# Altium footprint library SUPERSEAL 26POS 4ROW.PcbLib: 1 footprints
Each footprint in its own frame and in the unit in brackets; x right, y up, seen from the top. Pads: shape width x height; smd on the part's side, far side on the other; paste and mask are expansions set on the pad; w line width, h text height; cw(c..) or ccw(c..) is an arc to the next point about the centre after c.
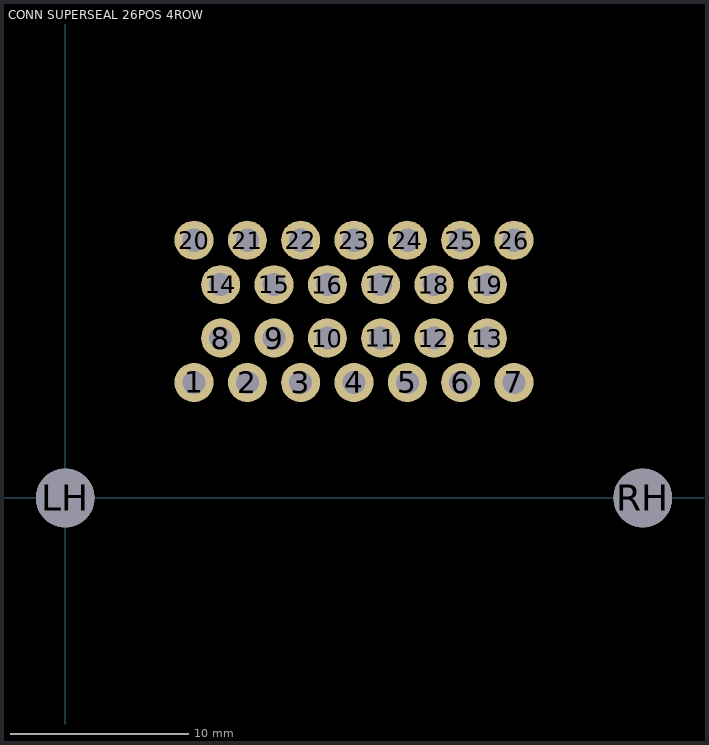
[diagram p0: the footprint, top view; thin cyan lines are the x and y axes]

## CONN SUPERSEAL 26POS 4ROW [mm]
pads (28):
  round 2.2 hole 1.3: 1(7.25,6.5) 2(10.25,6.5) 3(13.25,6.5) 4(16.25,6.5) 5(19.25,6.5) 6(22.25,6.5) 7(25.25,6.5) 8(8.75,9) 9(11.75,9) 10(14.75,9) 11(17.75,9) 12(20.75,9) 13(23.75,9) 14(8.75,12) 15(11.75,12) 16(14.75,12) 17(17.75,12) 18(20.75,12) 19(23.75,12) 20(7.25,14.5) 21(10.25,14.5) 22(13.25,14.5) 23(16.25,14.5) 24(19.25,14.5) 25(22.25,14.5) 26(25.25,14.5)
  round 3.3 hole 3.3: LH(0,0) RH(32.5,0)